# Altium integrated library Altium_WE-XTAL (rev22a).IntLib: 324 symbols (part 6 of 6)
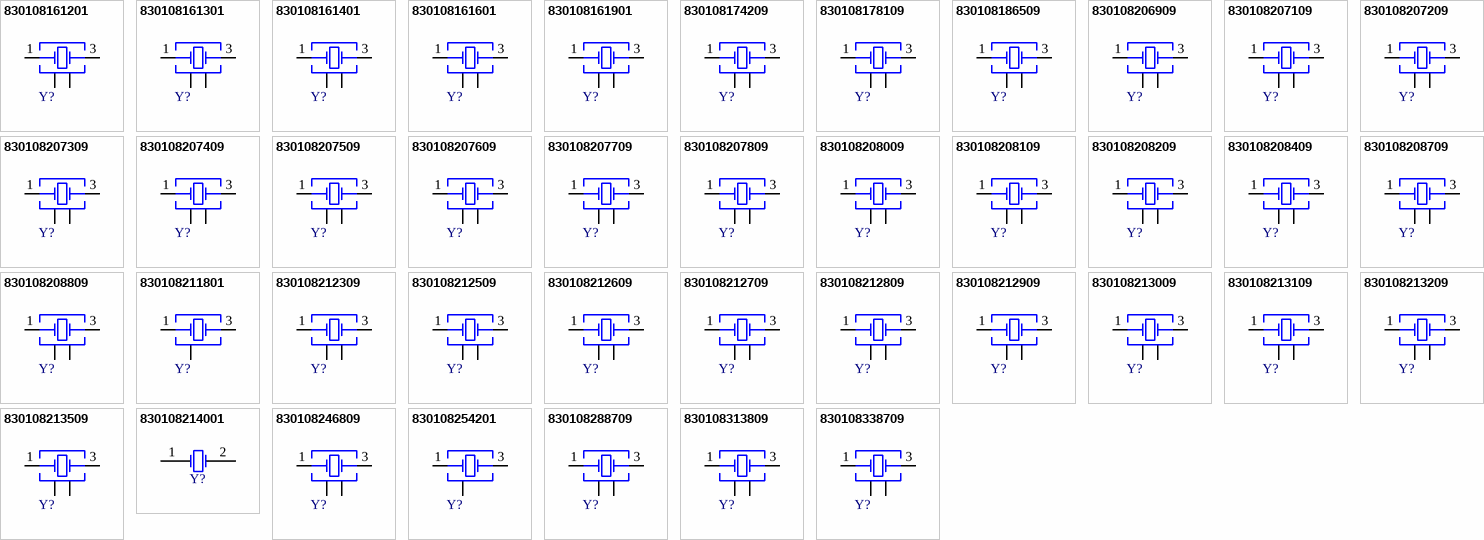
[diagram p13: symbols 830108161201 to 830108338709]

## 830108211801
designator Y?, comment 32.768kHz  (value not drawn)
WE-XTAL Watch Crystal, SMT, IQXC-146, 32.768kHz, +/-20ppm; Manufacturer Part Number: 830108211801; Manufacturer: Wurth Elektronik; Load Capacitance: 7pF; ComponentLink1Description: Website Link; ComponentLink1URL: https://www.we-online.com/redexpert/article/830108211801?ad; ComponentLink2Description: Datasheet Link; ComponentLink2URL: https://www.we-online.com/redexpert/spec/830108211801?ad; Category: Crystals; Match Code: WE-XTAL; Mount: Surface Mount; Operating Temperature Max: 85°C; Operating Temperature Min: -40°C; Packaging: Tape and Reel; Case/Size Code: IQXC-146; Length: 1.27mm; Width: 1.05mm; Height: 0.5mm; Frequency: 32.768kHz; Frequency Tolerance: +/-20ppm
footprint WE-XTAL_IQXC-146
pins: 1 Crystal, 2 GND, 3 Crystal

## 830108212309
designator Y?, comment 24MHz  (value not drawn)
WE-XTAL Quartz Crystal, SMT, IQXC-42, 24MHz, +/-10ppm; Manufacturer Part Number: 830108212309; Manufacturer: Wurth Elektronik; Frequency Stability: +/-15ppm; Load Capacitance: 8pF; ComponentLink1Description: Website Link; ComponentLink1URL: https://www.we-online.com/redexpert/article/830108212309?ad; ComponentLink2Description: Datasheet Link; ComponentLink2URL: https://www.we-online.com/redexpert/spec/830108212309?ad; Category: Crystals; Match Code: WE-XTAL; Mount: Surface Mount; Operating Temperature Max: 85°C; Operating Temperature Min: -40°C; Packaging: Tape and Reel; Case/Size Code: IQXC-42; Length: 2mm; Width: 1.6mm; Height: 0.5mm; Frequency: 24MHz; Frequency Tolerance: +/-10ppm
footprint WE-XTAL_IQXC-42
pins: 1 Crystal, 2 GND, 3 Crystal, 4 GND

## 830108212509
designator Y?, comment 25MHz  (value not drawn)
WE-XTAL Quartz Crystal, SMT, IQXC-42, 25MHz, +/-10ppm; Manufacturer Part Number: 830108212509; Manufacturer: Wurth Elektronik; Frequency Stability: +/-15ppm; Load Capacitance: 8pF; ComponentLink1Description: Website Link; ComponentLink1URL: https://www.we-online.com/redexpert/article/830108212509?ad; ComponentLink2Description: Datasheet Link; ComponentLink2URL: https://www.we-online.com/redexpert/spec/830108212509?ad; Category: Crystals; Match Code: WE-XTAL; Mount: Surface Mount; Operating Temperature Max: 85°C; Operating Temperature Min: -40°C; Packaging: Tape and Reel; Case/Size Code: IQXC-42; Length: 2mm; Width: 1.6mm; Height: 0.5mm; Frequency: 25MHz; Frequency Tolerance: +/-10ppm
footprint WE-XTAL_IQXC-42
pins: 1 Crystal, 2 GND, 3 Crystal, 4 GND

## 830108212609
designator Y?, comment 26MHz  (value not drawn)
WE-XTAL Quartz Crystal, SMT, IQXC-42, 26MHz, +/-10ppm; Manufacturer Part Number: 830108212609; Manufacturer: Wurth Elektronik; Frequency Stability: +/-15ppm; Load Capacitance: 8pF; ComponentLink1Description: Website Link; ComponentLink1URL: https://www.we-online.com/redexpert/article/830108212609?ad; ComponentLink2Description: Datasheet Link; ComponentLink2URL: https://www.we-online.com/redexpert/spec/830108212609?ad; Category: Crystals; Match Code: WE-XTAL; Mount: Surface Mount; Operating Temperature Max: 85°C; Operating Temperature Min: -40°C; Packaging: Tape and Reel; Case/Size Code: IQXC-42; Length: 2mm; Width: 1.6mm; Height: 0.5mm; Frequency: 26MHz; Frequency Tolerance: +/-10ppm
footprint WE-XTAL_IQXC-42
pins: 1 Crystal, 2 GND, 3 Crystal, 4 GND

## 830108212709
designator Y?, comment 27.12MHz  (value not drawn)
WE-XTAL Quartz Crystal, SMT, IQXC-42, 27.12MHz, +/-10ppm; Manufacturer Part Number: 830108212709; Manufacturer: Wurth Elektronik; Frequency Stability: +/-15ppm; Load Capacitance: 8pF; ComponentLink1Description: Website Link; ComponentLink1URL: https://www.we-online.com/redexpert/article/830108212709?ad; ComponentLink2Description: Datasheet Link; ComponentLink2URL: https://www.we-online.com/redexpert/spec/830108212709?ad; Category: Crystals; Match Code: WE-XTAL; Mount: Surface Mount; Operating Temperature Max: 85°C; Operating Temperature Min: -40°C; Packaging: Tape and Reel; Case/Size Code: IQXC-42; Length: 2mm; Width: 1.6mm; Height: 0.5mm; Frequency: 27.12MHz; Frequency Tolerance: +/-10ppm
footprint WE-XTAL_IQXC-42
pins: 1 Crystal, 2 GND, 3 Crystal, 4 GND

## 830108212809
designator Y?, comment 30MHz  (value not drawn)
WE-XTAL Quartz Crystal, SMT, IQXC-42, 30MHz, +/-10ppm; Manufacturer Part Number: 830108212809; Manufacturer: Wurth Elektronik; Frequency Stability: +/-15ppm; Load Capacitance: 8pF; ComponentLink1Description: Website Link; ComponentLink1URL: https://www.we-online.com/redexpert/article/830108212809?ad; ComponentLink2Description: Datasheet Link; ComponentLink2URL: https://www.we-online.com/redexpert/spec/830108212809?ad; Category: Crystals; Match Code: WE-XTAL; Mount: Surface Mount; Operating Temperature Max: 85°C; Operating Temperature Min: -40°C; Packaging: Tape and Reel; Case/Size Code: IQXC-42; Length: 2mm; Width: 1.6mm; Height: 0.5mm; Frequency: 30MHz; Frequency Tolerance: +/-10ppm
footprint WE-XTAL_IQXC-42
pins: 1 Crystal, 2 GND, 3 Crystal, 4 GND

## 830108212909
designator Y?, comment 32MHz  (value not drawn)
WE-XTAL Quartz Crystal, SMT, IQXC-42, 32MHz, +/-10ppm; Manufacturer Part Number: 830108212909; Manufacturer: Wurth Elektronik; Frequency Stability: +/-15ppm; Load Capacitance: 8pF; ComponentLink1Description: Website Link; ComponentLink1URL: https://www.we-online.com/redexpert/article/830108212909?ad; ComponentLink2Description: Datasheet Link; ComponentLink2URL: https://www.we-online.com/redexpert/spec/830108212909?ad; Category: Crystals; Match Code: WE-XTAL; Mount: Surface Mount; Operating Temperature Max: 85°C; Operating Temperature Min: -40°C; Packaging: Tape and Reel; Case/Size Code: IQXC-42; Length: 2mm; Width: 1.6mm; Height: 0.5mm; Frequency: 32MHz; Frequency Tolerance: +/-10ppm
footprint WE-XTAL_IQXC-42
pins: 1 Crystal, 2 GND, 3 Crystal, 4 GND

## 830108213009
designator Y?, comment 37.4MHz  (value not drawn)
WE-XTAL Quartz Crystal, SMT, IQXC-42, 37.4MHz, +/-10ppm; Manufacturer Part Number: 830108213009; Manufacturer: Wurth Elektronik; Frequency Stability: +/-15ppm; Load Capacitance: 8pF; ComponentLink1Description: Website Link; ComponentLink1URL: https://www.we-online.com/redexpert/article/830108213009?ad; ComponentLink2Description: Datasheet Link; ComponentLink2URL: https://www.we-online.com/redexpert/spec/830108213009?ad; Category: Crystals; Match Code: WE-XTAL; Mount: Surface Mount; Operating Temperature Max: 85°C; Operating Temperature Min: -40°C; Packaging: Tape and Reel; Case/Size Code: IQXC-42; Length: 2mm; Width: 1.6mm; Height: 0.5mm; Frequency: 37.4MHz; Frequency Tolerance: +/-10ppm
footprint WE-XTAL_IQXC-42
pins: 1 Crystal, 2 GND, 3 Crystal, 4 GND

## 830108213109
designator Y?, comment 38.4MHz  (value not drawn)
WE-XTAL Quartz Crystal, SMT, IQXC-42, 38.4MHz, +/-10ppm; Manufacturer Part Number: 830108213109; Manufacturer: Wurth Elektronik; Frequency Stability: +/-15ppm; Load Capacitance: 8pF; ComponentLink1Description: Website Link; ComponentLink1URL: https://www.we-online.com/redexpert/article/830108213109?ad; ComponentLink2Description: Datasheet Link; ComponentLink2URL: https://www.we-online.com/redexpert/spec/830108213109?ad; Category: Crystals; Match Code: WE-XTAL; Mount: Surface Mount; Operating Temperature Max: 85°C; Operating Temperature Min: -40°C; Packaging: Tape and Reel; Case/Size Code: IQXC-42; Length: 2mm; Width: 1.6mm; Height: 0.5mm; Frequency: 38.4MHz; Frequency Tolerance: +/-10ppm
footprint WE-XTAL_IQXC-42
pins: 1 Crystal, 2 GND, 3 Crystal, 4 GND

## 830108213209
designator Y?, comment 40MHz  (value not drawn)
WE-XTAL Quartz Crystal, SMT, IQXC-42, 40MHz, +/-10ppm; Manufacturer Part Number: 830108213209; Manufacturer: Wurth Elektronik; Frequency Stability: +/-15ppm; Load Capacitance: 8pF; ComponentLink1Description: Website Link; ComponentLink1URL: https://www.we-online.com/redexpert/article/830108213209?ad; ComponentLink2Description: Datasheet Link; ComponentLink2URL: https://www.we-online.com/redexpert/spec/830108213209?ad; Category: Crystals; Match Code: WE-XTAL; Mount: Surface Mount; Operating Temperature Max: 85°C; Operating Temperature Min: -40°C; Packaging: Tape and Reel; Case/Size Code: IQXC-42; Length: 2mm; Width: 1.6mm; Height: 0.5mm; Frequency: 40MHz; Frequency Tolerance: +/-10ppm
footprint WE-XTAL_IQXC-42
pins: 1 Crystal, 2 GND, 3 Crystal, 4 GND

## 830108213509
designator Y?, comment 48MHz  (value not drawn)
WE-XTAL Quartz Crystal, SMT, IQXC-42, 48MHz, +/-10ppm; Manufacturer Part Number: 830108213509; Manufacturer: Wurth Elektronik; Frequency Stability: +/-15ppm; Load Capacitance: 8pF; ComponentLink1Description: Website Link; ComponentLink1URL: https://www.we-online.com/redexpert/article/830108213509?ad; ComponentLink2Description: Datasheet Link; ComponentLink2URL: https://www.we-online.com/redexpert/spec/830108213509?ad; Category: Crystals; Match Code: WE-XTAL; Mount: Surface Mount; Operating Temperature Max: 85°C; Operating Temperature Min: -40°C; Packaging: Tape and Reel; Case/Size Code: IQXC-42; Length: 2mm; Width: 1.6mm; Height: 0.5mm; Frequency: 48MHz; Frequency Tolerance: +/-10ppm
footprint WE-XTAL_IQXC-42
pins: 1 Crystal, 2 GND, 3 Crystal, 4 GND

## 830108214001
designator Y?, comment 32.768kHz  (value not drawn)
WE-XTAL Watch Crystal, SMT, IQXC-90, 32.768kHz, +/-20ppm; Manufacturer Part Number: 830108214001; Manufacturer: Wurth Elektronik; Load Capacitance: 4pF; ComponentLink1Description: Website Link; ComponentLink1URL: https://www.we-online.com/redexpert/article/830108214001?ad; ComponentLink2Description: Datasheet Link; ComponentLink2URL: https://www.we-online.com/redexpert/spec/830108214001?ad; Category: Crystals; Match Code: WE-XTAL; Mount: Surface Mount; Operating Temperature Max: 85°C; Operating Temperature Min: -40°C; Packaging: Tape and Reel; Case/Size Code: IQXC-90; Length: 1.6mm; Width: 1mm; Height: 0.5mm; Frequency: 32.768kHz; Frequency Tolerance: +/-20ppm
footprint WE-XTAL_IQXC-90
pins: 1 OSC1, 2 OSC2

## 830108246809
designator Y?, comment 38.4MHz  (value not drawn)
WE-XTAL Quartz Crystal, SMT, IQXC-42, 38.4MHz, +/-10ppm; Manufacturer Part Number: 830108246809; Manufacturer: Wurth Elektronik; Frequency Stability: +/-15ppm; Load Capacitance: 10pF; ComponentLink1Description: Website Link; ComponentLink1URL: https://www.we-online.com/redexpert/article/830108246809?ad; ComponentLink2Description: Datasheet Link; ComponentLink2URL: https://www.we-online.com/redexpert/spec/830108246809?ad; Category: Crystals; Match Code: WE-XTAL; Mount: Surface Mount; Operating Temperature Max: 85°C; Operating Temperature Min: -40°C; Packaging: Tape and Reel; Case/Size Code: IQXC-42; Length: 2mm; Width: 1.6mm; Height: 0.5mm; Frequency: 38.4MHz; Frequency Tolerance: +/-10ppm
footprint WE-XTAL_IQXC-42
pins: 1 Crystal, 2 GND, 3 Crystal, 4 GND

## 830108254201
designator Y?, comment 32MHz  (value not drawn)
WE-XTAL Quartz Crystal, SMT, IQXC-240, 32MHz, +/-7ppm; Manufacturer Part Number: 830108254201; Manufacturer: Wurth Elektronik; Frequency Stability: +/-15ppm; Load Capacitance: 5pF; ComponentLink1Description: Website Link; ComponentLink1URL: https://www.we-online.com/redexpert/article/830108254201?ad; ComponentLink2Description: Datasheet Link; ComponentLink2URL: https://www.we-online.com/redexpert/spec/830108254201?ad; Category: Crystals; Match Code: WE-XTAL; Mount: Surface Mount; Operating Temperature Max: 85°C; Operating Temperature Min: -30°C; Packaging: Tape and Reel; Case/Size Code: IQXC-240; Length: 1.2mm; Width: 1mm; Height: 0.33mm; Frequency: 32MHz; Frequency Tolerance: +/-7ppm
footprint WE-XTAL_IQXC-240
pins: 1 Crystal, 2 GND, 3 Crystal

## 830108288709
designator Y?, comment 16MHz  (value not drawn)
WE-XTAL Quartz Crystal, SMT, IQXC-42, 16MHz, +/-10ppm; Manufacturer Part Number: 830108288709; Manufacturer: Wurth Elektronik; Frequency Stability: +/-30ppm; Load Capacitance: 10pF; ComponentLink1Description: Website Link; ComponentLink1URL: https://www.we-online.com/redexpert/article/830108288709?ad; ComponentLink2Description: Datasheet Link; ComponentLink2URL: https://www.we-online.com/redexpert/spec/830108288709?ad; Category: Crystals; Match Code: WE-XTAL; Mount: Surface Mount; Operating Temperature Max: 105°C; Operating Temperature Min: -40°C; Packaging: Tape and Reel; Case/Size Code: IQXC-42; Length: 2mm; Width: 1.6mm; Height: 0.5mm; Frequency: 16MHz; Frequency Tolerance: +/-10ppm
footprint WE-XTAL_IQXC-42
pins: 1 Crystal, 2 GND, 3 Crystal, 4 GND

## 830108313809
designator Y?, comment 8MHz  (value not drawn)
WE-XTAL Quartz Crystal, SMT, CFPX-180, 8MHz, +/-30ppm; Manufacturer Part Number: 830108313809; Manufacturer: Wurth Elektronik; Frequency Stability: +/-50ppm; Load Capacitance: 12pF; ComponentLink1Description: Website Link; ComponentLink1URL: https://www.we-online.com/redexpert/article/830108313809?ad; ComponentLink2Description: Datasheet Link; ComponentLink2URL: https://www.we-online.com/redexpert/spec/830108313809?ad; Category: Crystals; Match Code: WE-XTAL; Mount: Surface Mount; Operating Temperature Max: 85°C; Operating Temperature Min: -40°C; Packaging: Tape and Reel; Case/Size Code: CFPX-180; Length: 3.4mm; Width: 2.7mm; Height: 0.8mm; Frequency: 8MHz; Frequency Tolerance: +/-30ppm
footprint WE-XTAL_CFPX-180
pins: 1 Crystal, 2 GND&Lid, 3 Crystal, 4 GND&Lid

## 830108338709
designator Y?, comment 10MHz  (value not drawn)
WE-XTAL Quartz Crystal, SMT, CFPX-180, 10MHz, +/-20ppm; Manufacturer Part Number: 830108338709; Manufacturer: Wurth Elektronik; Frequency Stability: +/-50ppm; Load Capacitance: 12pF; ComponentLink1Description: Website Link; ComponentLink1URL: https://www.we-online.com/redexpert/article/830108338709?ad; ComponentLink2Description: Datasheet Link; ComponentLink2URL: https://www.we-online.com/redexpert/spec/830108338709?ad; Category: Crystals; Match Code: WE-XTAL; Mount: Surface Mount; Operating Temperature Max: 105°C; Operating Temperature Min: -40°C; Packaging: Tape and Reel; Case/Size Code: CFPX-180; Length: 3.4mm; Width: 2.7mm; Height: 0.8mm; Frequency: 10MHz; Frequency Tolerance: +/-20ppm
footprint WE-XTAL_CFPX-180
pins: 1 Crystal, 2 GND&Lid, 3 Crystal, 4 GND&Lid

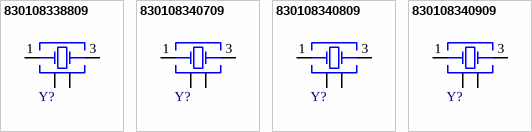
[diagram p8: symbols 830108338809 to 830108340909]

## 830108338809
designator Y?, comment 12MHz  (value not drawn)
WE-XTAL Quartz Crystal, SMT, CFPX-180, 12MHz, +/-20ppm; Manufacturer Part Number: 830108338809; Manufacturer: Wurth Elektronik; Frequency Stability: +/-30ppm; Load Capacitance: 12pF; ComponentLink1Description: Website Link; ComponentLink1URL: https://www.we-online.com/redexpert/article/830108338809?ad; ComponentLink2Description: Datasheet Link; ComponentLink2URL: https://www.we-online.com/redexpert/spec/830108338809?ad; Category: Crystals; Match Code: WE-XTAL; Mount: Surface Mount; Operating Temperature Max: 105°C; Operating Temperature Min: -40°C; Packaging: Tape and Reel; Case/Size Code: CFPX-180; Length: 3.4mm; Width: 2.7mm; Height: 0.8mm; Frequency: 12MHz; Frequency Tolerance: +/-20ppm
footprint WE-XTAL_CFPX-180
pins: 1 Crystal, 2 GND&Lid, 3 Crystal, 4 GND&Lid

## 830108340709
designator Y?, comment 24MHz  (value not drawn)
WE-XTAL Quartz Crystal, SMT, CFPX-180, 24MHz, +/-20ppm; Manufacturer Part Number: 830108340709; Manufacturer: Wurth Elektronik; Frequency Stability: +/-50ppm; Load Capacitance: 12pF; ComponentLink1Description: Website Link; ComponentLink1URL: https://www.we-online.com/redexpert/article/830108340709?ad; ComponentLink2Description: Datasheet Link; ComponentLink2URL: https://www.we-online.com/redexpert/spec/830108340709?ad; Category: Crystals; Match Code: WE-XTAL; Mount: Surface Mount; Operating Temperature Max: 105°C; Operating Temperature Min: -40°C; Packaging: Tape and Reel; Case/Size Code: CFPX-180; Length: 3.4mm; Width: 2.7mm; Height: 0.8mm; Frequency: 24MHz; Frequency Tolerance: +/-20ppm
footprint WE-XTAL_CFPX-180
pins: 1 Crystal, 2 GND&Lid, 3 Crystal, 4 GND&Lid

## 830108340809
designator Y?, comment 25MHz  (value not drawn)
WE-XTAL Quartz Crystal, SMT, CFPX-180, 25MHz, +/-20ppm; Manufacturer Part Number: 830108340809; Manufacturer: Wurth Elektronik; Frequency Stability: +/-30ppm; Load Capacitance: 12pF; ComponentLink1Description: Website Link; ComponentLink1URL: https://www.we-online.com/redexpert/article/830108340809?ad; ComponentLink2Description: Datasheet Link; ComponentLink2URL: https://www.we-online.com/redexpert/spec/830108340809?ad; Category: Crystals; Match Code: WE-XTAL; Mount: Surface Mount; Operating Temperature Max: 105°C; Operating Temperature Min: -40°C; Packaging: Tape and Reel; Case/Size Code: CFPX-180; Length: 3.4mm; Width: 2.7mm; Height: 0.8mm; Frequency: 25MHz; Frequency Tolerance: +/-20ppm
footprint WE-XTAL_CFPX-180
pins: 1 Crystal, 2 GND&Lid, 3 Crystal, 4 GND&Lid

## 830108340909
designator Y?, comment 26MHz  (value not drawn)
WE-XTAL Quartz Crystal, SMT, CFPX-180, 26MHz, +/-10ppm; Manufacturer Part Number: 830108340909; Manufacturer: Wurth Elektronik; Frequency Stability: +/-20ppm; Load Capacitance: 12pF; ComponentLink1Description: Website Link; ComponentLink1URL: https://www.we-online.com/redexpert/article/830108340909?ad; ComponentLink2Description: Datasheet Link; ComponentLink2URL: https://www.we-online.com/redexpert/spec/830108340909?ad; Category: Crystals; Match Code: WE-XTAL; Mount: Surface Mount; Operating Temperature Max: 105°C; Operating Temperature Min: -40°C; Packaging: Tape and Reel; Case/Size Code: CFPX-180; Length: 3.4mm; Width: 2.7mm; Height: 0.8mm; Frequency: 26MHz; Frequency Tolerance: +/-10ppm
footprint WE-XTAL_CFPX-180
pins: 1 Crystal, 2 GND&Lid, 3 Crystal, 4 GND&Lid